# EAGLE library part DB9M (library connect)
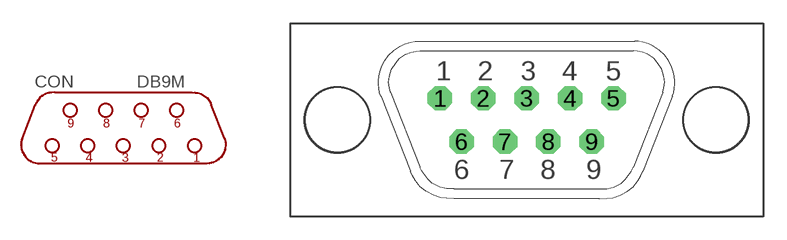
[diagram p0: symbol with the pads of D-09M; footprint D-09M]

Designator prefix CON

## DB9M  [D-09M]
1  1  pas
2  2  pas
3  3  pas
4  4  pas
5  5  pas
6  6  pas
7  7  pas
8  8  pas
9  9  pas

## Footprint D-09M (pad centres in mm)
drill 1.016 pad 1.575 octagon: 1 -5.588,1.397; 2 -2.794,1.397; 3 0,1.397; 4 2.794,1.397; 5 5.588,1.397; 6 -4.191,-1.397; 7 -1.397,-1.397; 8 1.397,-1.397; 9 4.191,-1.397
hole 4.115 at 12.192,0
hole 4.115 at -12.192,0